# Altium integrated library slide_potentiometer.IntLib: 1 symbol
Pins are listed as number, name and electrical type; pins without a type are passive.

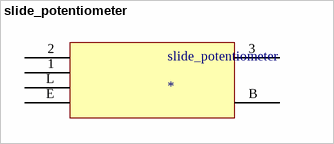
[diagram p0: symbol slide_potentiometer]

## slide_potentiometer
designator slide_potentiometer
footprint ptl_series_slide_potentiometer
pins: 1, 2, 3, B (power), E, L